# EAGLE library part DIPSWT-4 (library JULIAN)
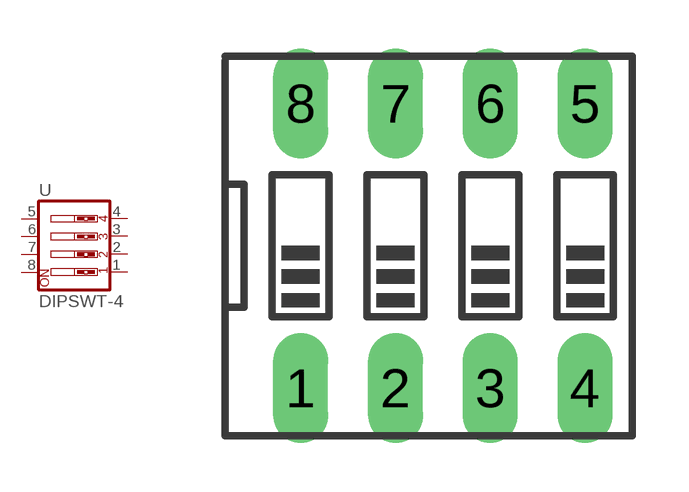
[diagram p1: symbol with the pads of DIPSWT-04; footprint DIPSWT-04]

Designator prefix -

## DIPSWT-4  [DIPSWT-04]
1  1  pas
2  2  pas
3  3  pas
4  4  pas
5  5  pas
6  6  pas
7  7  pas
8  8  pas

## Footprint DIPSWT-04 (pad centres in mm)
drill 0.97 long: 1 -7.62,-3.81; 2 -5.08,-3.81; 3 -2.54,-3.81; 4 0,-3.81; 5 0,3.81; 6 -2.54,3.81; 7 -5.08,3.81; 8 -7.62,3.81